# EAGLE library part M50-3610842 (library SamacSys_Parts)
1.27mm (0.05") Pitch DIL Vertical SMT Pin Header with location pegs, selective gold + tin, 8+8 contacts Source: Datasheet <https://cdn.harwin.com/pdfs/M50-361.pdf>
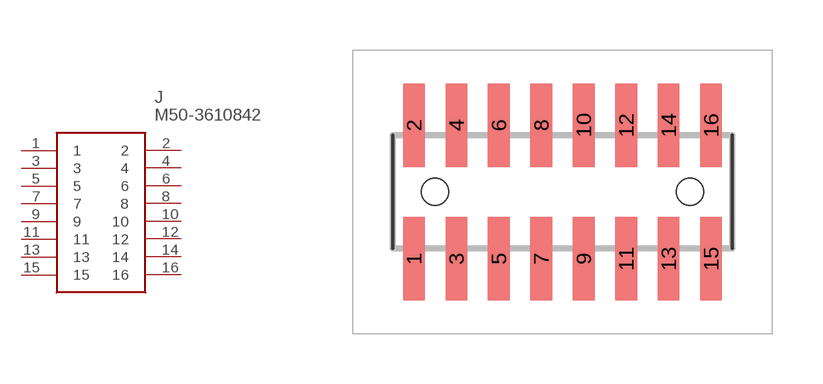
[diagram p6: symbol with the pads of M50-3610842; footprint M50-3610842]

Designator prefix J

## M50-3610842 (DESCRIPTION: 1.27mm (0.05") Pitch DIL Vertical SMT Pin Header with location pegs, selective gold + tin, 8+8 contacts; HEIGHT: mm; MANUFACTURER_NAME: Harwin; MANUFACTURER_PART_NUMBER: M50-3610842; MOUSER_PART_NUMBER: 855-M50-3610842; MOUSER_PRICE-STOCK: https://www.mouser.co.uk/ProductDetail/Harwin/M50-3610842?qs=takmLBRdAO9xRfs0tvJSSg%3D%3D)  [M50-3610842]
1  1
2  2
3  3
4  4
5  5
6  6
7  7
8  8
9  9
10  10
11  11
12  12
13  13
14  14
15  15
16  16

## Footprint M50-3610842 (pad centres in mm)
M50-3610842
smd 0.65 x 2.5: 1 -4.445,-2; 2 -4.445,2; 3 -3.175,-2; 4 -3.175,2; 5 -1.905,-2; 6 -1.905,2; 7 -0.635,-2; 8 -0.635,2; 9 0.635,-2; 10 0.635,2; 11 1.905,-2; 12 1.905,2; 13 3.175,-2; 14 3.175,2; 15 4.445,-2; 16 4.445,2
hole 0.8 at -3.81,0
hole 0.8 at 3.81,0